# Altium footprint library arksigner1.PcbLib: 8 footprints
Each footprint in its own frame and in the unit in brackets; x right, y up, seen from the top. Pads: shape width x height; smd on the part's side, far side on the other; paste and mask are expansions set on the pad; w line width, h text height; cw(c..) or ccw(c..) is an arc to the next point about the centre after c.
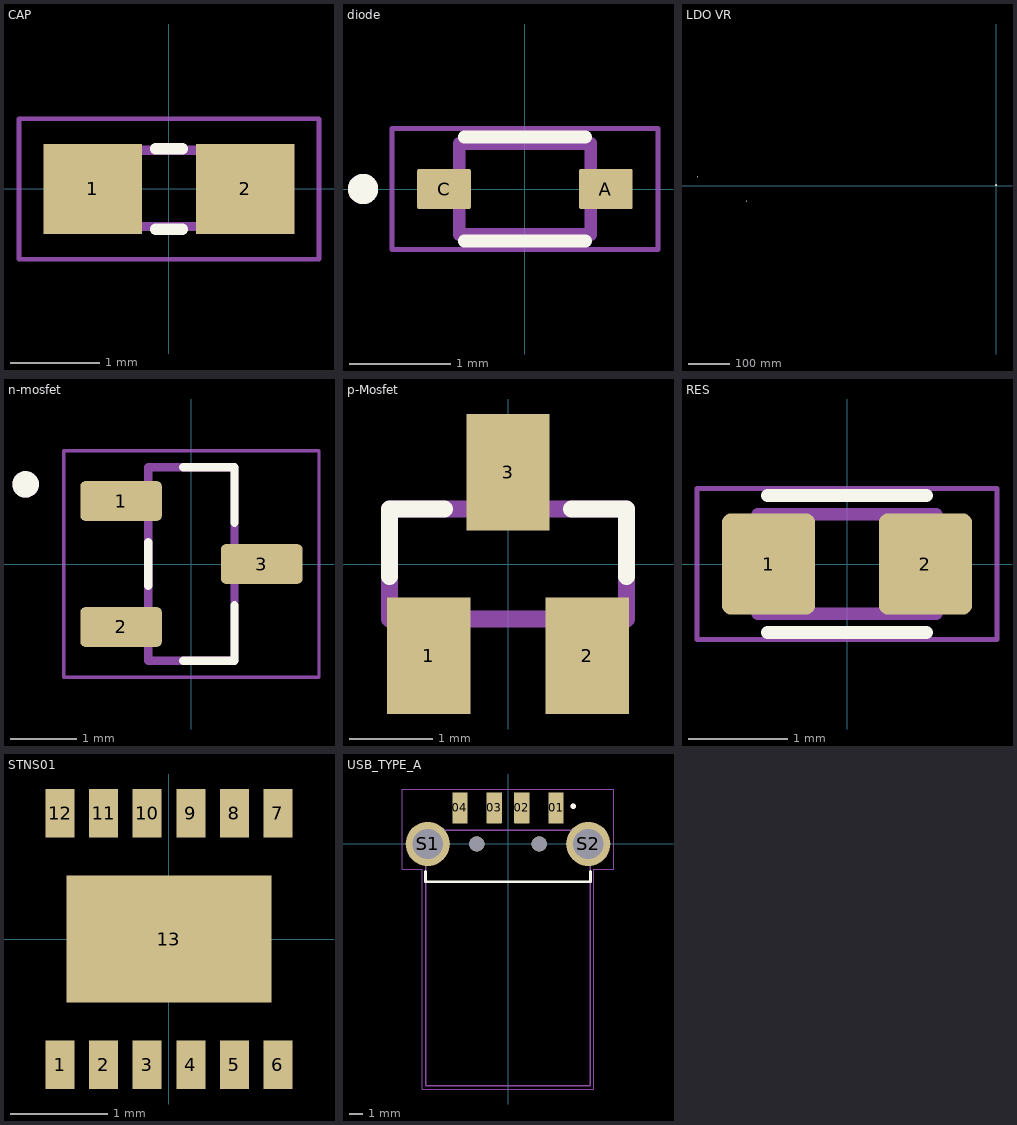
[diagram p0: the footprints below, top view; thin cyan lines are the x and y axes]

## CAP [mm]
pads (2):
  rect 1.1x1 smd: 1(-0.85,0) 2(0.85,0)
Top Overlay:
  lines w0.127: -0.15,-0.45 0.15,-0.45 ; -0.15,0.45 0.15,0.45
Mechanical 13:
  region: -0.338,-0.47 -0.839,-0.47 -0.839,0.48 -0.338,0.48
  region: 0.83,-0.471 0.331,-0.471 0.331,0.48 0.83,0.48
  lines w0.102: -0.356,-0.419 0.356,-0.419 ; -0.356,0.432 0.356,0.432
Mechanical 15:
  lines w0.051: -1.673,-0.783 1.673,-0.783 1.673,0.783 -1.673,0.783 -1.673,-0.783

## diode [mm]
pads (2):
  rrect10% 0.53x0.4 smd: A(0.8,0) C(-0.8,0)
Top Overlay:
  circle w0.2: c-1.6,0 r0.05
  lines w0.127: -0.6,-0.515 0.6,-0.515 ; -0.6,0.515 0.6,0.515
Mechanical 13:
  circle w0.2: c-1.6,0 r0.05
  lines w0.127: -0.65,-0.45 0.65,-0.45 0.65,0.45 -0.65,0.45 -0.65,-0.45
Mechanical 15:
  lines w0.05: -1.315,-0.6 -1.315,0.6 1.315,0.6 1.315,-0.6 -1.315,-0.6

## LDO VR [mm]
pads (7):
  rect 0.62x1.22 smd: 1(-0.95,0) 2(0,0) 3(0.95,0)
  rect 0.62x1.2 smd: 4(-0.95,2.62) 5(0.95,2.62)
  round 1.524 hole 0.762: 47(-727.898,21.717) 48(-608.137,-37.973)
Top Overlay:
  lines w0.1: -0.999,0.873 0.976,0.873 0.976,1.773 -0.999,1.773 -0.999,0.873
3D body "SOT-23-5_MC_MCH.step": height 1.7, standoff 0, extent -1.549,-0.35 1.549,2.85

## n-mosfet [mm]
pads (3):
  rrect25% 1.23x0.6 smd: 1(-1.06,0.95) 2(-1.06,-0.95) 3(1.06,0)
Top Overlay:
  circle w0.2: c-2.5,1.2 r0.1
  lines w0.127: -0.65,-0.33 -0.65,0.33 ; -0.125,-1.46 0.65,-1.46 0.65,-0.62 ; -0.125,1.46 0.65,1.46 0.65,0.62
Mechanical 13:
  circle w0.2: c-2.5,1.2 r0.1
  lines w0.127: -0.65,-1.46 -0.65,1.46 0.65,1.46 0.65,-1.46 -0.65,-1.46
Mechanical 15:
  lines w0.05: -1.925,-1.71 1.925,-1.71 1.925,1.71 -1.925,1.71 -1.925,-1.71
3D body "step_temp.STEP": height 1, standoff -0.1, extent -1.05,-1 1.05,1

## p-Mosfet [mm]
pads (3):
  rect 1x1.4 smd: 1(-0.95,-1.1) 2(0.95,-1.1) 3(0,1.1)
Top Overlay:
  lines w0.203: -1.422,-0.152 -1.422,0.66 -0.764,0.66 ; 0.764,0.66 1.422,0.66 1.422,-0.152
Mechanical 13:
  region: -0.711,-1.297 -1.17,-1.297 -1.17,-0.711 -0.711,-0.711
  region: 1.168,-1.296 0.711,-1.296 0.711,-0.711 1.168,-0.711
  region: 0.229,0.712 -0.229,0.712 -0.229,1.295 0.229,1.295
  lines w0.203: -1.422,-0.66 -1.422,0.66 1.422,0.66 1.422,-0.66 -1.422,-0.66

## RES [mm]
pads (2):
  rrect20% 0.94x1.02 smd: 1(-0.79,0) 2(0.79,0)
Top Overlay:
  lines w0.127: -0.8,-0.69 0.8,-0.69 ; -0.8,0.69 0.8,0.69
Mechanical 13:
  lines w0.127: -0.9,-0.5 0.9,-0.5 0.9,0.5 -0.9,0.5 -0.9,-0.5
Mechanical 15:
  lines w0.05: -1.51,-0.76 1.51,-0.76 1.51,0.76 -1.51,0.76 -1.51,-0.76

## STNS01 [mm]
pads (13):
  rect 0.3x0.5 smd: 1(-1.125,-1.3) 2(-0.675,-1.3) 3(-0.225,-1.3) 4(0.225,-1.3) 5(0.675,-1.3) 6(1.125,-1.3) 7(1.125,1.3) 8(0.675,1.3) 9(0.225,1.3) 10(-0.225,1.3) 11(-0.675,1.3) 12(-1.125,1.3)
  rect 2.12x1.31 smd: 13(0,0)
3D body "DFN_S01PUR_STM.step": height 0.81, standoff 0, extent -1.575,-1.575 1.575,1.575

## USB_TYPE_A [mm]
pads (8):
  rrect4% 1.1x2.25 smd: 01(3.5,2.625) 02(1,2.625) 03(-1,2.625) 04(-3.5,2.625)
  round 3.216 hole 2.2: S1(-5.85,0) S2(5.85,0)
  round 1.1 hole 1.1 unplated: ""(-2.275,0) ""(2.275,0)
Top Overlay:
  circle w0.2: c4.75,2.75 r0.1
  lines w0.2: -6,-2 -6,-2.75 6,-2.75 6,-2
Mechanical 13:
  circle w0.2: c4.75,2.75 r0.1
  lines w0.1: -6,-2.75 6,-2.75 ; -6,-17.6 6,-17.6 6,1 -6,1 -6,-17.6
  text "PCB EDGE" at -3.5,-2.5 h1.02
Mechanical 15:
  lines w0.05: -7.71,-1.86 -6.25,-1.86 -6.25,-17.85 6.25,-17.85 6.25,-1.86 7.71,-1.86 7.71,4 -7.71,4 -7.71,-1.86
3D body "MOLEX_0480371000.STEP": height 3.07, standoff -2.64, extent -6.292,-17.612 6.201,3.668